# EAGLE library part LMV358 (library U-Linear)
Jellybean rail-to-rail output op-amp pinout is same as LM358 (which is not rail-to-rail)
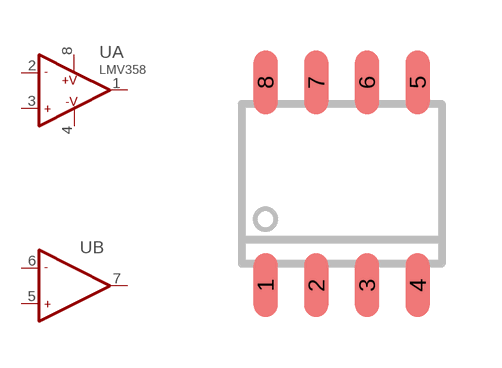
[diagram p0: symbol with the pads of SOIC8; footprint SOIC8]

Designator prefix U; gates A=OPAMP_2 B=OPAMP_2_1

## LMV358  [SOIC8]
1  A:OUT1  out
2  A:-IN1  in
3  A:+IN1  in
4  A:GND  pwr
5  B:+IN2  in
6  B:-IN2  in
7  B:OUT2  out
8  A:+V  pwr

## Footprint SOIC8 (pad centres in mm)
8POS Standard SMALLl OUTLINE Package (SO/SOIC) Narrow Body
smd 0.6 x 1.6: 1 -1.905,-2.54; 2 -0.635,-2.54; 3 0.635,-2.54; 4 1.905,-2.54; 5 1.905,2.54; 6 0.635,2.54; 7 -0.635,2.54; 8 -1.905,2.54